# EAGLE library part PIC32MX250F128B (library libraries)
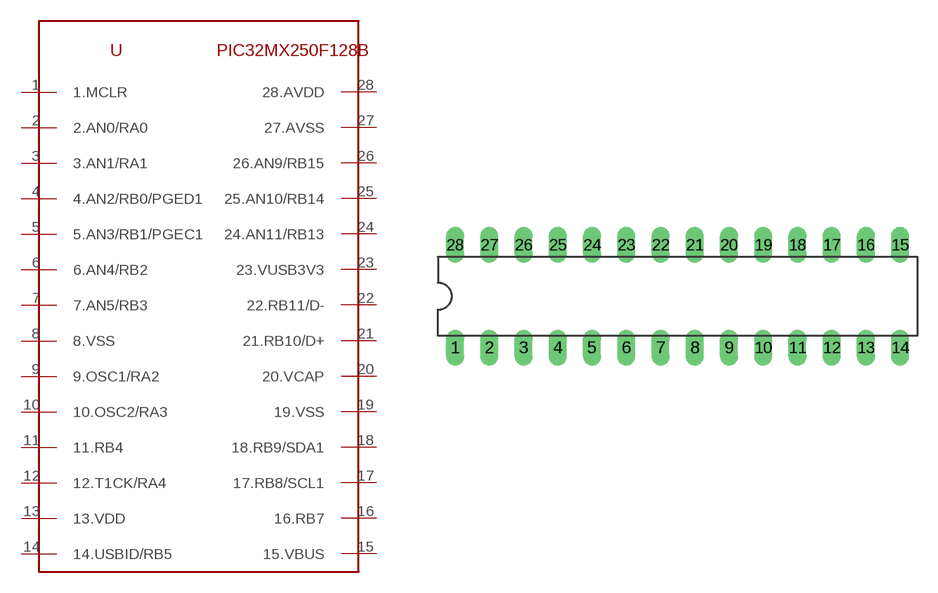
[diagram p11: symbol with the pads of DIL28-3; footprint DIL28-3]

Designator prefix -

## PIC32MX250F128B  [DIL28-3]
1  1.MCLR
2  2.AN0/RA0
3  3.AN1/RA1
4  4.AN2/RB0/PGED1
5  5.AN3/RB1/PGEC1
6  6.AN4/RB2
7  7.AN5/RB3
8  8.VSS
9  9.OSC1/RA2
10  10.OSC2/RA3
11  11.RB4
12  12.T1CK/RA4
13  13.VDD
14  14.USBID/RB5
15  15.VBUS
16  16.RB7
17  17.RB8/SCL1
18  18.RB9/SDA1
19  19.VSS
20  20.VCAP
21  21.RB10/D+
22  22.RB11/D-
23  23.VUSB3V3
24  24.AN11/RB13
25  25.AN10/RB14
26  26.AN9/RB15
27  27.AVSS
28  28.AVDD

## Footprint DIL28-3 (pad centres in mm)
Dual In Line Package Small
drill 0.813 long: 1 -16.51,-3.81; 2 -13.97,-3.81; 3 -11.43,-3.81; 4 -8.89,-3.81; 5 -6.35,-3.81; 6 -3.81,-3.81; 7 -1.27,-3.81; 8 1.27,-3.81; 9 3.81,-3.81; 10 6.35,-3.81; 11 8.89,-3.81; 12 11.43,-3.81; 13 13.97,-3.81; 14 16.51,-3.81; 15 16.51,3.81; 16 13.97,3.81; 17 11.43,3.81; 18 8.89,3.81; 19 6.35,3.81; 20 3.81,3.81; 21 1.27,3.81; 22 -1.27,3.81; 23 -3.81,3.81; 24 -6.35,3.81; 25 -8.89,3.81; 26 -11.43,3.81; 27 -13.97,3.81; 28 -16.51,3.81